# EAGLE library part SIP32431DR3-T1GE3 (library Switch)
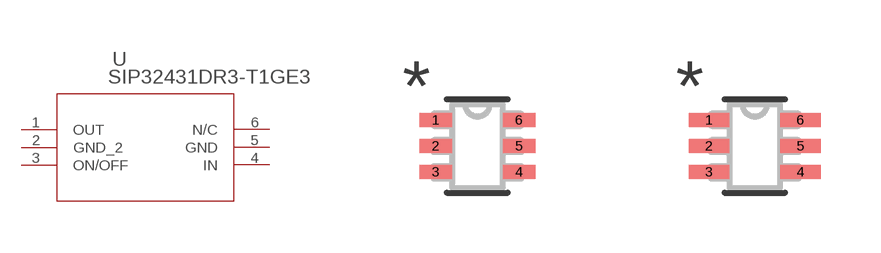
[diagram p0: symbol with the pads of SC-70-6_VIS; footprints SC-70-6_VIS, SC-70-6_VIS-M]

Designator prefix U

## SIP32431DR3-T1GE3 (COPYRIGHT: Copyright (C) 2022 Ultra Librarian. All rights reserved.; MANUFACTURER_PART_NUMBER: SIP32431DR3-T1GE3; MFR_NAME: Vishay)  [SC-70-6_VIS]
1  OUT  out
2  GND_2  pas
3  ON/OFF  pas
4  IN  in
5  GND  pas
6  N/C  nc

## SIP32431DR3-T1GE3SC-70-6_VIS-M (COPYRIGHT: Copyright (C) 2022 Ultra Librarian. All rights reserved.; MANUFACTURER_PART_NUMBER: SIP32431DR3-T1GE3; MFR_NAME: Vishay)  [SC-70-6_VIS-M]
Pads as for SC-70-6_VIS

## SIP32431DR3-T1GE3SC-70-6_VIS-L (COPYRIGHT: Copyright (C) 2022 Ultra Librarian. All rights reserved.; MANUFACTURER_PART_NUMBER: SIP32431DR3-T1GE3; MFR_NAME: Vishay)  [SC-70-6_VIS-L]
Pads as for SC-70-6_VIS

## Footprint SC-70-6_VIS (pad centres in mm)
smd 0.813 x 0.356: 1 -1.041,0.65; 2 -1.041,0; 3 -1.041,-0.65; 4 1.041,-0.65; 5 1.041,0; 6 1.041,0.65

## Footprint SC-70-6_VIS-M (pad centres in mm)
smd 1.016 x 0.356: 1 -1.143,0.65; 2 -1.143,0; 3 -1.143,-0.65; 4 1.143,-0.65; 5 1.143,0; 6 1.143,0.65

## Footprint SC-70-6_VIS-L (pad centres in mm)
smd 0.61 x 0.305: 1 -0.94,0.65; 2 -0.94,0; 3 -0.94,-0.65; 4 0.94,-0.65; 5 0.94,0; 6 0.94,0.65